# Altium schematic symbol library Diodes.SchLib: 6 symbols
Pins are listed as number, name and electrical type; pins without a type are passive.

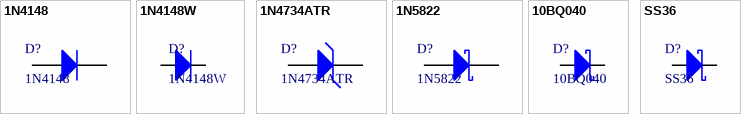
[diagram p0: symbols 1N4148 to SS36]

## 1N4148
designator D?
SMALL SGNL DIODE DO35 100V 175C; Manufacturer: ON Semiconductor / Fairchild; Diode Element Material: SILICON; Diode Type: RECTIFIER; Forward Voltage: 1V; Non-rep Pk Forward Current-Max: 2A; Number of Elements: 1; Max Output current: 200mA; Reverse Recovery Time-Max: 0.004us; Surface Mount: No; Case Connection: Isolated; Max Power Dissipation: 500mW; JEDEC-95 Code: DO-35; Qualification Status: Not Qualified; Supplier: Digikey; Supplier Part Number: 1N4148FS-ND; Manufacturer Part Number: 1N4148; RoHS: Yes; Category: Rectifier Diodes; Stock: 182200; Pricing: 1=0.1, 10=0.057, 100=0.0306, 500=0.024, 1000=0.01666, 2000=0.01381, 5000=0.01305, 10000=0.01111, 50000=0.00889 (USD); Pins: 2; Package Shape: Round; Max Operating Temperature: 175°C; Rep Pk Reverse Voltage-Max: 100V; JESD-30 Code: O-XALF-W2; Package Style: LONG FORMMeter; Terminal Form: Wire; Terminal Position: AXIAL; Reach SVHC Compliant: Yes; RoHS Compliant: Yes; ComponentLink1URL: https://datasheet.ciiva.com:443/pdfs/VipMasterIC/IC/ONSM/ONSM-S-A0003590094/ONSM-S-A0003539415-1.pdf?src-supplier=IHS+Markit; ComponentLink1Description: https://datasheet.ciiva.com:443/pdfs/VipMasterIC/IC/ONSM/ONSM-S-A0003590094/ONSM-S-A0003539415-1.pdf?src-supplier=IHS+Markit; ComponentLink2URL: https://datasheet.ciiva.com/27049/743285-27049708.pdf?src-supplier=Jameco; ComponentLink2Description: https://datasheet.ciiva.com/27049/743285-27049708.pdf?src-supplier=Jameco
footprint 1N4148
pins: 1 K, 2 A

## 1N4148W
designator D?
DIODE GEN PURP 75V 250MA SOD123; Manufacturer: Sangdest Microelectronics; Supplier: Digikey; Supplier Part Number: 1655-1N4148WCT-ND; Manufacturer Part Number: 1N4148W; RoHS: No; Category: LDO; Stock: 181231; Pricing: 1=0.13, 10=0.077, 100=0.0474, 500=0.0342, 1000=0.0299 (USD)
footprint SOD-123
pins: 1 K, 2 A

## 1N4734ATR
designator D?
DIODE ZENER 5.6V 1W DO41; Manufacturer: ON Semiconductor / Fairchild; Diode Element Material: SILICON; Package Body Material: Glass; Polarity: Unidirectional; Case Connection: Isolated; Dynamic Impedance-Max: 5R; Number of Elements: 1; Surface Mount: No; Voltage Tol-Max: 5%; Test Current: 45mA; JEDEC-95 Code: DO-41; Qualification Status: Not Qualified; Supplier: Digikey; Supplier Part Number: 1N4734AFSCT-ND; Manufacturer Part Number: 1N4734ATR; RoHS: Yes; Category: Zener Diodes; Stock: 18282; Pricing: 1=0.24, 10=0.145, 100=0.0902, 500=0.06612, 1000=0.05831 (USD); Pins: 2; Package Shape: Round; Min Operating Temperature: -65°C; Max Operating Temperature: 200°C; Diode Type: ZENER; JESD-30 Code: O-LALF-W2; Package Style: LONG FORMMeter; Max Power Dissipation: 1W; Reference Voltage-Nom: 5.6V; Technology: ZENER; Terminal Form: Wire; Terminal Position: AXIAL; Reach SVHC Compliant: Yes; RoHS Compliant: Yes; ComponentLink1URL: https://datasheet.ciiva.com:443/pdfs/VipMasterIC/IC/FAIR/FAIRS30206/FAIRS30206-1.pdf?src-supplier=IHS+Markit; ComponentLink1Description: https://datasheet.ciiva.com:443/pdfs/VipMasterIC/IC/FAIR/FAIRS30206/FAIRS30206-1.pdf?src-supplier=IHS+Markit; ComponentLink2URL: https://datasheet.ciiva.com/15142/getdatasheetpartid-70054-15142360.pdf?src-supplier=Verical; ComponentLink2Description: https://datasheet.ciiva.com/15142/getdatasheetpartid-70054-15142360.pdf?src-supplier=Verical; ComponentLink3URL: https://datasheet.ciiva.com/889/1n4731a-889224.pdf?src-supplier=Digikey; ComponentLink3Description: https://datasheet.ciiva.com/889/1n4731a-889224.pdf?src-supplier=Digikey; ComponentLink4URL: https://datasheet.ciiva.com/889/1n4731a-889225.pdf?src-supplier=Digikey; ComponentLink4Description: https://datasheet.ciiva.com/889/1n4731a-889225.pdf?src-supplier=Digikey; ComponentLink5URL: https://datasheet.ciiva.com/46425/1482758-46425861.pdf?src-supplier=Element14; ComponentLink5Description: https://datasheet.ciiva.com/46425/1482758-46425861.pdf?src-supplier=Element14; ComponentLink6URL: https://datasheet.ciiva.com/8084/1n4730a-8084123.pdf?src-supplier=Avnet; ComponentLink6Description: https://datasheet.ciiva.com/8084/1n4730a-8084123.pdf?src-supplier=Avnet
footprint DO-41
pins: 1 K, 2 A

## 1N5822
designator D?
DIODE SCHOTTKY 40V 3A DO201AD; Manufacturer: STMicroelectronics; Diode Element Material: SILICON; Package Body Material: Plastic; Additional Feature: FREE WHEELING DIODE; Application(s): POWER; Case Connection: Isolated; Diode Type: RECTIFIER; Forward Voltage: 950mV; Non-rep Pk Forward Current-Max: 80A; Number of Elements: 1; Surface Mount: No; JEDEC-95 Code: DO-201AD; Qualification Status: Not Qualified; Supplier: Digikey; Supplier Part Number: 497-11370-1-ND; Manufacturer Part Number: 1N5822; RoHS: Yes; Category: Rectifier Diodes; Stock: 380; Pricing: 1=0.42, 10=0.328, 100=0.1969 (USD); Pins: 2; Package Shape: Round; Terminal Finish: Tin; Max Operating Temperature: 150°C; JESD-609 Code: e3; JESD-30 Code: O-PALF-W2; Number of Phases: 1; Max Output current: 3A; Package Style: LONG FORMMeter; Rep Pk Reverse Voltage-Max: 40V; Technology: SCHOTTKY; Terminal Form: Wire; Terminal Position: AXIAL; RoHS Compliant: Yes; Reach SVHC Compliant: No; ComponentLink1URL: https://datasheet.ciiva.com:443/pdfs/VipMasterIC/IC/SGST/SGSTS14204/SGSTS14204-1.pdf?src-supplier=IHS+Markit; ComponentLink1Description: https://datasheet.ciiva.com:443/pdfs/VipMasterIC/IC/SGST/SGSTS14204/SGSTS14204-1.pdf?src-supplier=IHS+Markit; ComponentLink2URL: https://datasheet.ciiva.com/1177/1689683-1177129.pdf?src-supplier=Element14; ComponentLink2Description: https://datasheet.ciiva.com/1177/1689683-1177129.pdf?src-supplier=Element14; ComponentLink3URL: https://datasheet.ciiva.com/26339/168275-da-01-en-schottky-barrier-rectif-axial-1n5822-26339005.pdf?src-supplier=Conrad; ComponentLink3Description: https://datasheet.ciiva.com/26339/168275-da-01-en-schottky-barrier-rectif-axial-1n5822-26339005.pdf?src-supplier=Conrad; ComponentLink4URL: https://datasheet.ciiva.com/916/cd00001626-916050.pdf?src-supplier=Digikey; ComponentLink4Description: https://datasheet.ciiva.com/916/cd00001626-916050.pdf?src-supplier=Digikey; ComponentLink5URL: https://datasheet.ciiva.com/916/cd00001626-916051.pdf?src-supplier=Digikey; ComponentLink5Description: https://datasheet.ciiva.com/916/cd00001626-916051.pdf?src-supplier=Digikey; ComponentLink6URL: https://datasheet.ciiva.com/16303/cd00001626-16303311.pdf?src-supplier=Future+Electronics; ComponentLink6Description: https://datasheet.ciiva.com/16303/cd00001626-16303311.pdf?src-supplier=Future+Electronics
footprint DO-201AD_STM
pins: 1 K, 2 A

## 10BQ040
designator D?
DIODE SCHOTTKY 40V 1A SMB; Manufacturer: Sangdest Microelectronics; Supplier: Digikey; Supplier Part Number: 1655-10BQ040CT-ND; Manufacturer Part Number: 10BQ040; RoHS: No; Stock: 75601; Pricing: 1=0.33, 10=0.203, 100=0.1274, 500=0.09426, 1000=0.08355 (USD)
footprint DO-214AA-SMB
pins: 1 K, 2 A

## SS36
designator D?
DIODE SCHOTTKY 60V 3A DO214AB; Manufacturer: ON Semiconductor / Fairchild; Diode Element Material: SILICON; Package Body Material: Plastic; Application(s): GENERAL PURPOSE; Diode Type: RECTIFIER; Forward Voltage: 750mV; Non-rep Pk Forward Current-Max: 100A; Number of Elements: 1; Max Power Dissipation: 2.27W; JEDEC-95 Code: DO-214AB; Qualification Status: Not Qualified; Supplier: Digikey; Supplier Part Number: SS36FSCT-ND; Manufacturer Part Number: SS36; RoHS: Yes; Category: Schottky Diodes; Stock: 9039; Pricing: 1=0.59, 10=0.5, 100=0.4039, 500=0.32028, 1000=0.28286 (USD); Pins: 2; Package Shape: Rectangular; Terminal Finish: Tin; Min Operating Temperature: -55°C; Max Operating Temperature: 150°C; JESD-609 Code: e3; JESD-30 Code: R-PDSO-C2; Moisture Sensitivity Level: 1; Number of Phases: 1; Max Output current: 3A; Package Style: SMALL OUTLINEMeter; Rep Pk Reverse Voltage-Max: 60V; Surface Mount: Yes; Technology: SCHOTTKY; Terminal Form: C BEND; Terminal Position: DUAL; RoHS Compliant: Yes; Reach SVHC Compliant: No; ComponentLink1URL: https://datasheet.ciiva.com:443/pdfs/VipMasterIC/IC/ONSM/ONSM-S-A0006325861/ONSM-S-A0006325861-1.pdf?src-supplier=IHS+Markit; ComponentLink1Description: https://datasheet.ciiva.com:443/pdfs/VipMasterIC/IC/ONSM/ONSM-S-A0006325861/ONSM-S-A0006325861-1.pdf?src-supplier=IHS+Markit; ComponentLink2URL: https://datasheet.ciiva.com/4714/ss36-197193-4714610.pdf?src-supplier=Mouser; ComponentLink2Description: https://datasheet.ciiva.com/4714/ss36-197193-4714610.pdf?src-supplier=Mouser; ComponentLink3URL: https://datasheet.ciiva.com/16889/ss36-16889545.pdf?src-supplier=Future+Electronics; ComponentLink3Description: https://datasheet.ciiva.com/16889/ss36-16889545.pdf?src-supplier=Future+Electronics; ComponentLink4URL: https://datasheet.ciiva.com/920/ss34-920433.pdf?src-supplier=Digikey; ComponentLink4Description: https://datasheet.ciiva.com/920/ss34-920433.pdf?src-supplier=Digikey; ComponentLink5URL: https://datasheet.ciiva.com/920/ss34-920434.pdf?src-supplier=Digikey; ComponentLink5Description: https://datasheet.ciiva.com/920/ss34-920434.pdf?src-supplier=Digikey; ComponentLink6URL: https://datasheet.ciiva.com/920/ss34-920435.pdf?src-supplier=Digikey; ComponentLink6Description: https://datasheet.ciiva.com/920/ss34-920435.pdf?src-supplier=Digikey
footprint DO-214AB
pins: 1 K, 2 A